# EAGLE library part AD74111YRUZ (library AD74111)
Mono Audio Codec
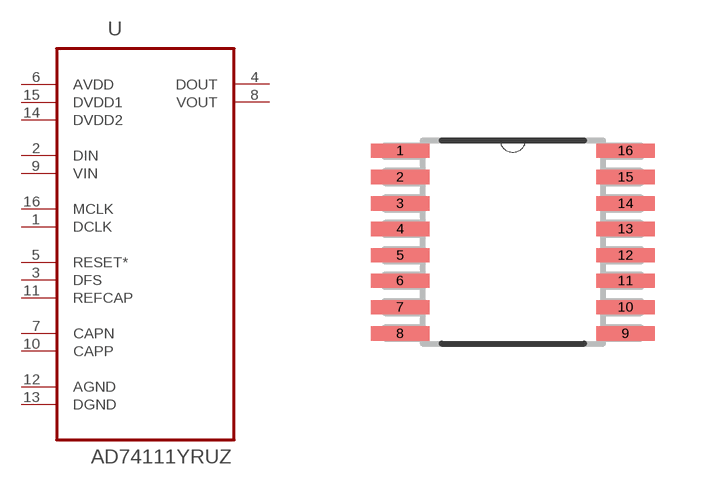
[diagram p0: symbol with the pads of SOP65P640X120-16N; footprint SOP65P640X120-16N]

Designator prefix U

## AD74111YRUZ (MPN: AD74111YRUZ; OC_FARNELL: 1581927; OC_NEWARK: 12M8794; PACKAGE: TSSOP-16; SUPPLIER: Analog Devices)  [SOP65P640X120-16N]
1  DCLK
2  DIN  in
3  DFS
4  DOUT  out
5  RESET*  in
6  AVDD  pwr
7  CAPN  pas
8  VOUT  out
9  VIN  in
10  CAPP  pas
11  REFCAP
12  AGND  pas
13  DGND  pas
14  DVDD2  pwr
15  DVDD1  pwr
16  MCLK  pas

## Footprint SOP65P640X120-16N (pad centres in mm)
smd 1.473 x 0.356: 1 -2.819,2.286; 2 -2.819,1.626; 3 -2.819,0.965; 4 -2.819,0.33; 5 -2.819,-0.33; 6 -2.819,-0.965; 7 -2.819,-1.626; 8 -2.819,-2.286; 9 2.819,-2.286; 10 2.819,-1.626; 11 2.819,-0.965; 12 2.819,-0.33; 13 2.819,0.33; 14 2.819,0.965; 15 2.819,1.626; 16 2.819,2.286